# EAGLE library part CON_DB9 (library TinkerTech)
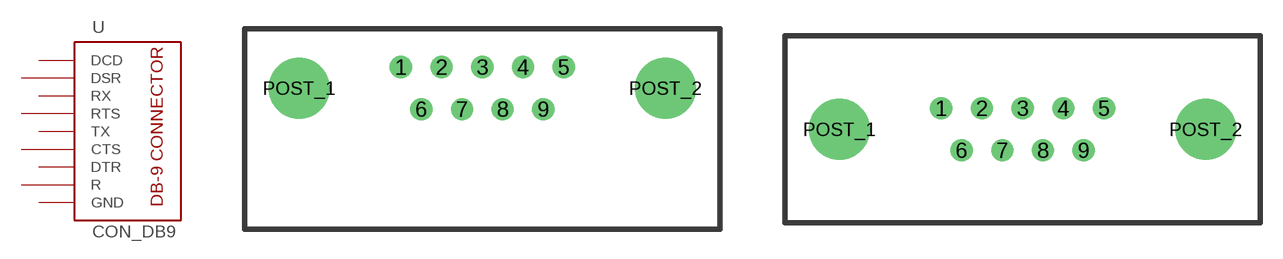
[diagram p1: symbol with the pads of D09P33E4GV00LF; footprints D09P33E4GV00LF, D09P24A4GV00LF]

Designator prefix -

## CON_DB9  [D09P33E4GV00LF]
1  DCD
2  RX
3  TX
4  DTR
5  GND
6  DSR
7  RTS
8  CTS
9  R

## CON_DB9VERT  [D09P24A4GV00LF]
Pads as for D09P33E4GV00LF

## Footprint D09P33E4GV00LF (pad centres in mm)
drill 0.8 pad 1.5: 1 -5.48,1.42; 2 -2.74,1.42; 3 0,1.42; 4 2.74,1.42; 5 5.48,1.42; 6 -4.11,-1.41; 7 -1.37,-1.41; 8 1.37,-1.41; 9 4.11,-1.41
drill 3.1 pad 4: POST_1 -12.33,0; POST_2 12.33,0

## Footprint D09P24A4GV00LF (pad centres in mm)
drill 0.8 pad 1.5: 1 -5.48,1.42; 2 -2.74,1.42; 3 0,1.42; 4 2.74,1.42; 5 5.48,1.42; 6 -4.11,-1.41; 7 -1.37,-1.41; 8 1.37,-1.41; 9 4.11,-1.41
drill 3.1 pad 4: POST_1 -12.33,0; POST_2 12.33,0